# EAGLE library part CONNECTOR (library pico)
Connector for sega pico
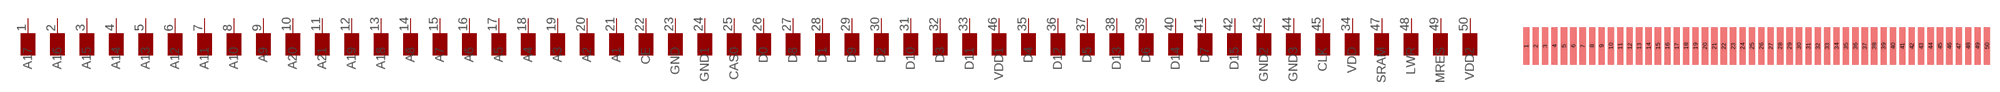
[diagram p0: symbol with the pads of CONNECTOR; footprint CONNECTOR]

Designator prefix -

## CONNECTOR  [CONNECTOR]
1  A17
2  A16
3  A15
4  A14
5  A13
6  A12
7  A11
8  A10
9  A9
10  A20
11  A21
12  A19
13  A18
14  A8
15  A7
16  A6
17  A5
18  A4
19  A3
20  A2
21  A1
22  CE
23  GND
24  GND1
25  CAS0
26  D0
27  D8
28  D1
29  D9
30  D2
31  D10
32  D3
33  D11
34  VDD
35  D4
36  D12
37  D5
38  D13
39  D6
40  D14
41  D7
42  D15
43  GND2
44  GND3
45  CLK
46  VDD1
47  SRAM
48  LWR
49  MRES
50  VDD2

## Footprint CONNECTOR (pad centres in mm)
Connector Pads for Pico Cartridges
smd 1 x 6: 1 0.9,-3; 2 2.4,-3; 3 3.9,-3; 4 5.4,-3; 5 6.9,-3; 6 8.4,-3; 7 9.9,-3; 8 11.4,-3; 9 12.9,-3; 10 14.4,-3; 11 15.9,-3; 12 17.4,-3; 13 18.9,-3; 14 20.4,-3; 15 21.9,-3; 16 23.4,-3; 17 24.9,-3; 18 26.4,-3; 19 27.9,-3; 20 29.4,-3; 21 30.9,-3; 22 32.4,-3; 23 33.9,-3; 24 35.4,-3; 25 36.9,-3; 26 38.4,-3; 27 39.9,-3; 28 41.4,-3; 29 42.9,-3; 30 44.4,-3; 31 45.9,-3; 32 47.4,-3; 33 48.9,-3; 34 50.4,-3; 35 51.9,-3; 36 53.4,-3; 37 54.9,-3; 38 56.4,-3; 39 57.9,-3; 40 59.4,-3; 41 60.9,-3; 42 62.4,-3; 43 63.9,-3; 44 65.4,-3; 45 66.9,-3; 46 68.4,-3; 47 69.9,-3; 48 71.4,-3; 49 72.9,-3; 50 74.4,-3